# Altium footprint library Antena2.PcbLib: 1 footprints
Each footprint in its own frame and in the unit in brackets; x right, y up, seen from the top. Pads: shape width x height; smd on the part's side, far side on the other; paste and mask are expansions set on the pad; w line width, h text height; cw(c..) or ccw(c..) is an arc to the next point about the centre after c.
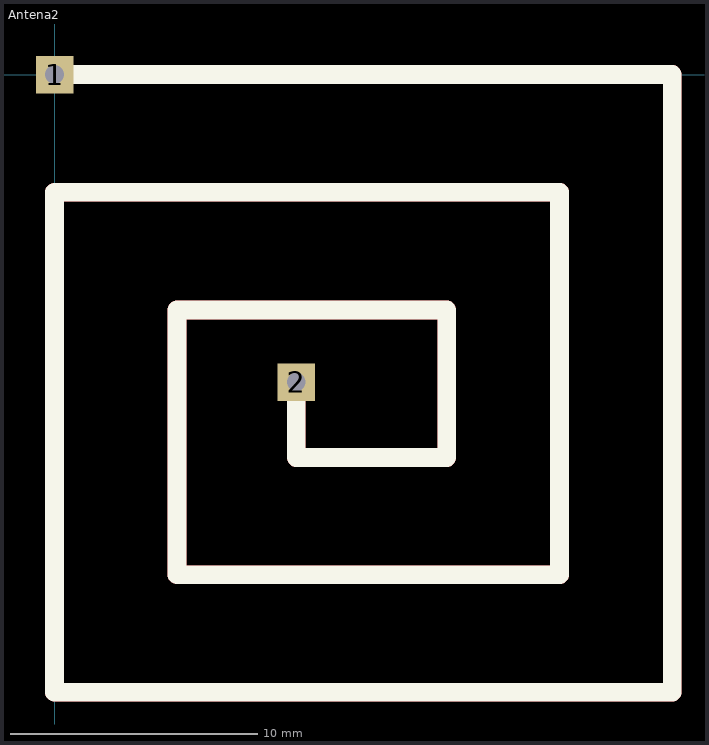
[diagram p0: the footprint, top view; thin cyan lines are the x and y axes]

## Antena2 [mil]
pads (2):
  rect 60x60 hole 30 square: 1(0,0) 2(385,-490)
Top Layer:
  lines w30: 0,0 984.25,0 984.25,-984.25 0,-984.25 0,-187.5 805,-187.5 ; 385,-490 385,-610 625,-610 625,-375 195,-375 195,-797.13 805,-797.13 ; 804.63,-795 804.63,-187.5
Top Overlay:
  lines w20: -5,-10 -5,-5 ; -5,-7.5 -2.5,-7.5
  lines w30: 0,0 984.25,0 984.25,-984.25 0,-984.25 0,-187.5 805,-187.5 ; 385,-490 385,-610 625,-610 625,-375 195,-375 195,-797.13 805,-797.13 ; 804.63,-795 804.63,-187.5